# Altium integrated library TSW-110-X-X-S.IntLib: 1 symbol
Pins are listed as number, name and electrical type; pins without a type are passive.

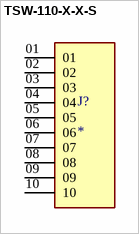
[diagram p0: symbol TSW-110-X-X-S]

## TSW-110-X-X-S
designator J?
MF: Samtec; MP: TSW-110-X-X-S; Package: None; Price: None; Value: *; Availability: Unavailable
footprint SAMTEC_TSW-110-X-X-S
pins: 01, 02, 03, 04, 05, 06, 07, 08, 09, 10